# Altium schematic symbol library PicoBlade 4 pin.SchLib: 1 symbol
Pins are listed as number, name and electrical type; pins without a type are passive.

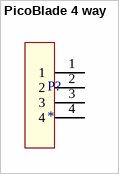
[diagram p0: symbol PicoBlade 4 way]

## PicoBlade 4 way
designator P?
footprint P? (Picoblade connector RA 4 way)
pins: 1, 2, 3, 4